# Altium schematic symbol library Sensor_RGBW_VEML6040.Schlib: 1 symbol
Pins are listed as number, name and electrical type; pins without a type are passive.

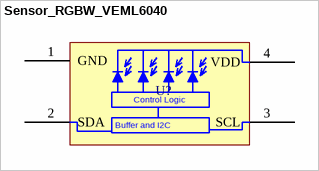
[diagram p0: symbol Sensor_RGBW_VEML6040]

## Sensor_RGBW_VEML6040
designator U?
footprint SON123 (SON, 8-Leads, Body 4.48x5.55mm, Pitch 1.23mm, Thermal Pad 4.43x3.25mm, IPC Medium Density)
pins: 1 GND, 2 SDA, 3 SCL, 4 VDD
text: Control Logic; Buffer and I2C Interface